# EAGLE library part MAX756 (library SteveMarple)
3V3/5V step-up (boost) DC-DC converter.
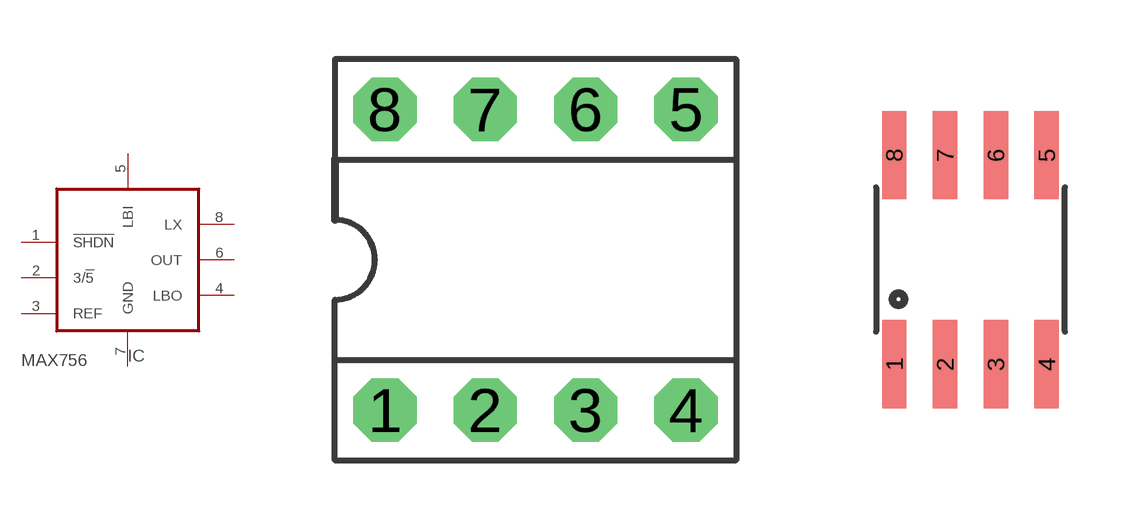
[diagram p10: symbol with the pads of DIL08; footprints DIL08, SO08]

Designator prefix IC

## MAX756CPA  [DIL08]
1  !SHDN  in
2  3/!5  in
3  REF  in
4  LBO  out
5  LBI  in
6  OUT  pwr
7  GND  pwr
8  LX  out

## MAX756CSA  [SO08]
Pads as for DIL08

## MAX756CPA/CSA  [DIL08-SOIC8]
1  !SHDN  in
1@1  !SHDN  in
2  3/!5  in
2@1  3/!5  in
3  REF  in
3@1  REF  in
4  LBO  out
4@1  LBO  out
5  LBI  in
5@1  LBI  in
6  OUT  pwr
6@1  OUT  pwr
7  GND  pwr
7@1  GND  pwr
8  LX  out
8@1  LX  out

## Footprint DIL08 (pad centres in mm)
drill 0.813 pad 1.6 octagon: 1 -3.81,-3.81; 2 -1.27,-3.81; 3 1.27,-3.81; 4 3.81,-3.81; 5 3.81,3.81; 6 1.27,3.81; 7 -1.27,3.81; 8 -3.81,3.81

## Footprint SO08 (pad centres in mm)
smd 0.61 x 2.21: 1 -1.905,-2.616; 2 -0.635,-2.616; 3 0.635,-2.616; 4 1.905,-2.616; 5 1.905,2.616; 6 0.635,2.616; 7 -0.635,2.616; 8 -1.905,2.616

## Footprint DIL08-SOIC8 (pad centres in mm)
drill 0.813 pad 1.6 octagon: 1 -3.81,-3.81; 2 -1.27,-3.81; 3 1.27,-3.81; 4 3.81,-3.81; 5 3.81,3.81; 6 1.27,3.81; 7 -1.27,3.81; 8 -3.81,3.81
smd 0.61 x 2.21: 1@1 -1.905,-6.426; 2@1 -0.635,-6.426; 3@1 0.635,-6.426; 4@1 1.905,-6.426; 5@1 1.905,-1.194; 6@1 0.635,-1.194; 7@1 -0.635,-1.194; 8@1 -1.905,-1.194